# EAGLE library part NRF24L01 (library NRF24L01)
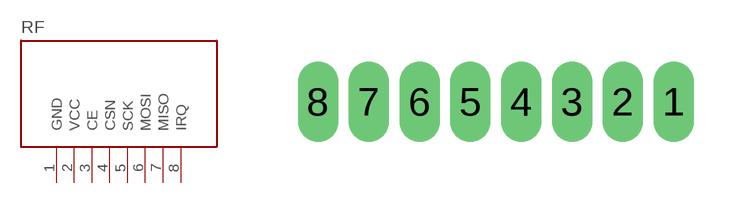
[diagram p0: symbol with the pads of NRF24L01; footprint NRF24L01]

Designator prefix RF

## NRF24L01  [NRF24L01]
1  GND
2  VCC
3  CE
4  CSN
5  SCK
6  MOSI
7  MISO
8  IRQ

## Footprint NRF24L01 (pad centres in mm)
drill 0.5 long: 1 9.54,0.06; 2 8.27,0.06; 3 7,0.06; 4 5.73,0.06; 5 4.46,0.06; 6 3.19,0.06; 7 1.92,0.06; 8 0.65,0.06